# EAGLE library part RXM_GPS (library stepOSP)
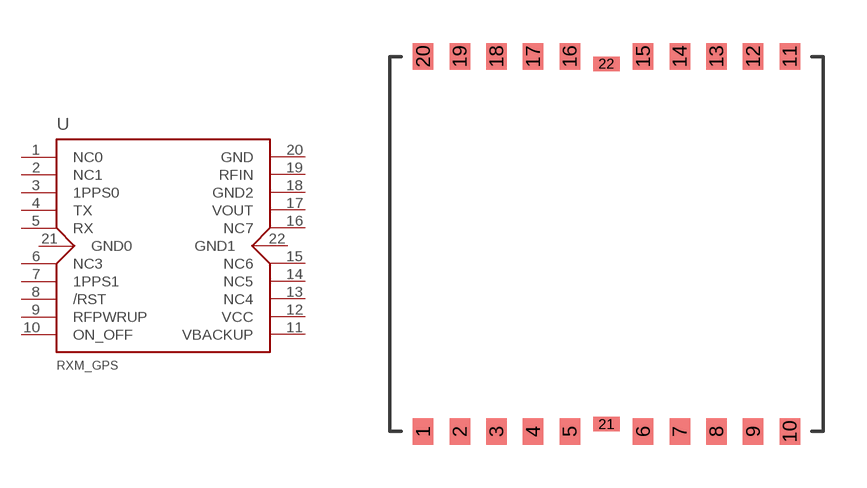
[diagram p29: symbol with the pads of RXM_GPS_RM_B; footprint RXM_GPS_RM_B]

Designator prefix -

## RXM_GPS  [RXM_GPS_RM_B]
1  NC0
2  NC1
3  1PPS0
4  TX
5  RX
6  NC3
7  1PPS1
8  /RST
9  RFPWRUP
10  ON_OFF
11  VBACKUP
12  VCC
13  NC4
14  NC5
15  NC6
16  NC7
17  VOUT
18  GND2
19  RFIN
20  GND
21  GND0
22  GND1

## Footprint RXM_GPS_RM_B (pad centres in mm)
smd 0.711 x 0.914: 1 -6.35,-6.502; 2 -5.08,-6.502; 3 -3.81,-6.502; 4 -2.54,-6.502; 5 -1.27,-6.502; 6 1.27,-6.502; 7 2.54,-6.502; 8 3.81,-6.502; 9 5.08,-6.502; 10 6.35,-6.502; 11 6.35,6.502; 12 5.08,6.502; 13 3.81,6.502; 14 2.54,6.502; 15 1.27,6.502; 16 -1.27,6.502; 17 -2.54,6.502; 18 -3.81,6.502; 19 -5.08,6.502; 20 -6.35,6.502
smd 0.914 x 0.508: 21 0,-6.248; 22 0,6.248